# Altium integrated library Analog Devices Switches and Multiplexers Multiplexers (Muxes).IntLib: 481 symbols (part 7 of 23)
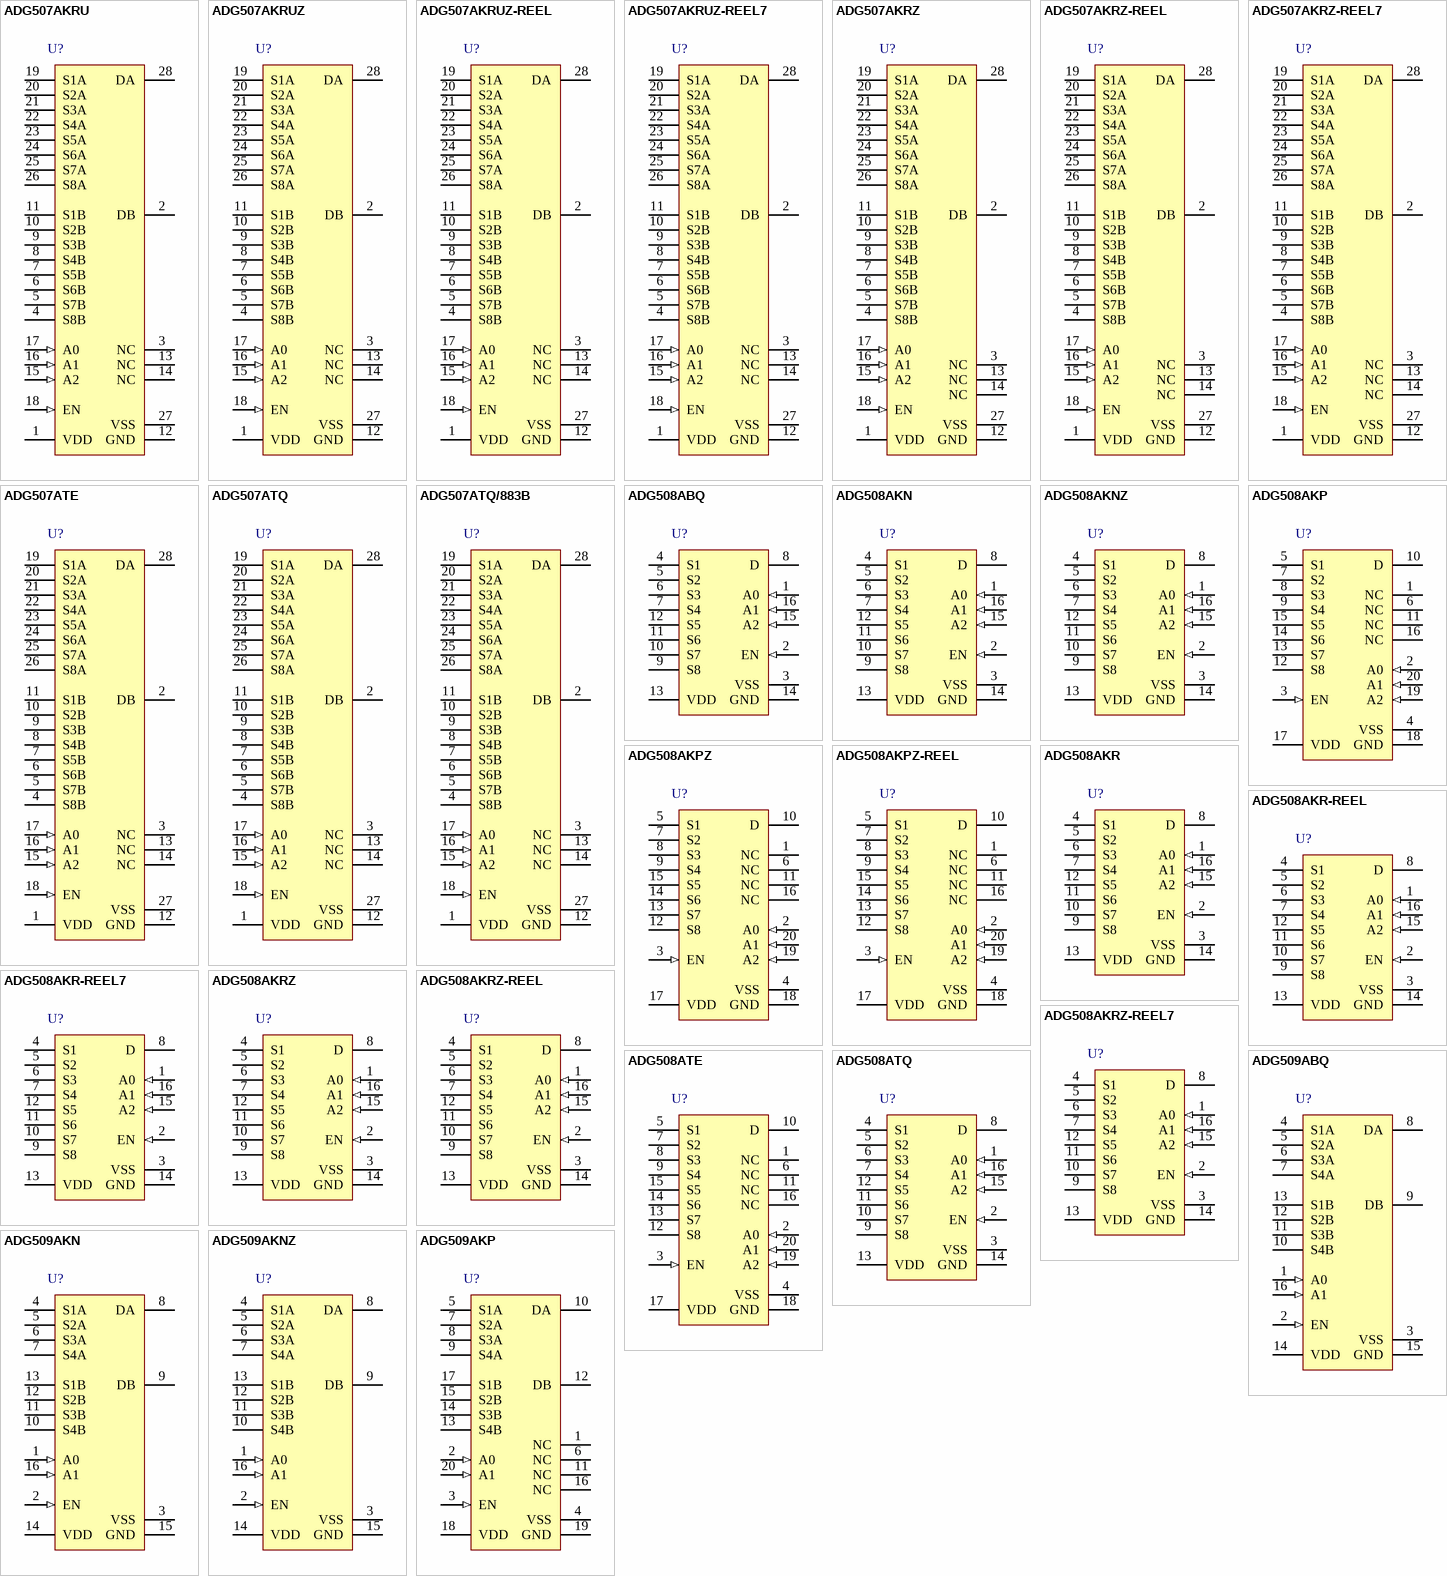
[diagram p23: symbols ADG507AKRU to ADG509AKP]

## ADG508AKR-REEL
designator U?
CMOS 8-Channel Analog Multiplexer, 280 Ohm / 500 Ohm Ron, 16-pin SOIC (R-16), Reel; Manufacturer: Analog Devices; PartNumber: ADG508AKR-REEL; Max Analog Signal Range: Vss to Vdd; Ron (ohms): 280; t transition (s): 200n; DatasheetVersion: Rev. D; PackageVersion: 060606-A, 06/2006; PackageReference: R-16; PackageDescription: 16-Pin Standard Small Outline Package, Body 9.9 x 3.9 mm, Pitch 1.27 mm; Supplier 1: Digi-Key; Supplier Part Number 1: ADG508AKR-REEL-ND; Supplier 2: Newark; Supplier Part Number 2: 09B7093; Supplier 3: Mouser; Supplier Part Number 3: 584-ADG508AKR-R; Packing: Reel; Mounting Technology: Surface Mount; Code_JEDEC: MS-012-AC; ComponentLink1Description: Manufacturer URL; ComponentLink1URL: http://www.analog.com/en/index.html; ComponentLink2Description: Datasheet; ComponentLink2URL: http://www.analog.com/static/imported-files/data_sheets/ADG508A_509A.pdf; ComponentLink3Description: Package Specification; ComponentLink3URL: http://www.analog.com/static/imported-files/packages/PKG_PDF/SOIC_Narrow%20(R)/R_16.pdf
footprint ADI-R-16_N (SOIC, 16-Leads, Body 9.9x3.9mm, Pitch 1.27mm, IPC Medium Density)
footprint ADI-R-16_L (SOIC, 16-Leads, Body 9.9x3.9mm, Pitch 1.27mm, IPC High Density)
footprint ADI-R-16_M (SOIC, 16-Leads, Body 9.9x3.9mm, Pitch 1.27mm, IPC Low Density)
pins: 1 A0 (in), 2 EN (in), 3 VSS (power), 4 S1, 5 S2, 6 S3, 7 S4, 8 D, 9 S8, 10 S7, 11 S6, 12 S5, 13 VDD (power), 14 GND (power), 15 A2 (in), 16 A1 (in)

## ADG508AKR-REEL7
designator U?
CMOS 8-Channel Analog Multiplexer, 280 Ohm / 500 Ohm Ron, 16-pin SOIC (R-16), Reel; Manufacturer: Analog Devices; PartNumber: ADG508AKR-REEL7; Max Analog Signal Range: Vss to Vdd; Ron (ohms): 280; t transition (s): 200n; DatasheetVersion: Rev. D; PackageVersion: 060606-A, 06/2006; PackageReference: R-16; PackageDescription: 16-Pin Standard Small Outline Package, Body 9.9 x 3.9 mm, Pitch 1.27 mm; Supplier 1: Digi-Key; Supplier Part Number 1: ADG508AKR-REEL7TR-ND; Supplier 2: Digi-Key; Supplier Part Number 2: ADG508AKR-REEL7CT-ND; Supplier 3: Digi-Key; Supplier Part Number 3: ADG508AKRREEL7DKR-ND; Supplier 4: Newark; Supplier Part Number 4: 09B7094; Supplier 5: Mouser; Supplier Part Number 5: 584-ADG508AKR-R7; Packing: Reel; Mounting Technology: Surface Mount; Code_JEDEC: MS-012-AC; ComponentLink1Description: Manufacturer URL; ComponentLink1URL: http://www.analog.com/en/index.html; ComponentLink2Description: Datasheet; ComponentLink2URL: http://www.analog.com/static/imported-files/data_sheets/ADG508A_509A.pdf; ComponentLink3Description: Package Specification; ComponentLink3URL: http://www.analog.com/static/imported-files/packages/PKG_PDF/SOIC_Narrow%20(R)/R_16.pdf
footprint ADI-R-16_N (SOIC, 16-Leads, Body 9.9x3.9mm, Pitch 1.27mm, IPC Medium Density)
footprint ADI-R-16_L (SOIC, 16-Leads, Body 9.9x3.9mm, Pitch 1.27mm, IPC High Density)
footprint ADI-R-16_M (SOIC, 16-Leads, Body 9.9x3.9mm, Pitch 1.27mm, IPC Low Density)
pins: 1 A0 (in), 2 EN (in), 3 VSS (power), 4 S1, 5 S2, 6 S3, 7 S4, 8 D, 9 S8, 10 S7, 11 S6, 12 S5, 13 VDD (power), 14 GND (power), 15 A2 (in), 16 A1 (in)

## ADG508AKRZ
designator U?
CMOS 8-Channel Analog Multiplexer, 280 Ohm / 500 Ohm Ron, 16-pin SOIC (R-16), Tube; Manufacturer: Analog Devices; PartNumber: ADG508AKRZ; Max Analog Signal Range: Vss to Vdd; Ron (ohms): 280; t transition (s): 200n; DatasheetVersion: Rev. D; PackageVersion: 060606-A, 06/2006; PackageReference: R-16; PackageDescription: 16-Pin Standard Small Outline Package, Body 9.9 x 3.9 mm, Pitch 1.27 mm; Supplier 1: Digi-Key; Supplier Part Number 1: ADG508AKRZ-ND; Supplier 2: Farnell; Supplier Part Number 2: 1661033; Supplier 3: Newark; Supplier Part Number 3: 59K1361; Supplier 4: Mouser; Supplier Part Number 4: 584-ADG508AKRZ; Packing: Tube; Mounting Technology: Surface Mount; Code_JEDEC: MS-012-AC; ComponentLink1Description: Manufacturer URL; ComponentLink1URL: http://www.analog.com/en/index.html; ComponentLink2Description: Datasheet; ComponentLink2URL: http://www.analog.com/static/imported-files/data_sheets/ADG508A_509A.pdf; ComponentLink3Description: Package Specification; ComponentLink3URL: http://www.analog.com/static/imported-files/packages/PKG_PDF/SOIC_Narrow%20(R)/R_16.pdf
footprint ADI-R-16_N (SOIC, 16-Leads, Body 9.9x3.9mm, Pitch 1.27mm, IPC Medium Density)
footprint ADI-R-16_L (SOIC, 16-Leads, Body 9.9x3.9mm, Pitch 1.27mm, IPC High Density)
footprint ADI-R-16_M (SOIC, 16-Leads, Body 9.9x3.9mm, Pitch 1.27mm, IPC Low Density)
pins: 1 A0 (in), 2 EN (in), 3 VSS (power), 4 S1, 5 S2, 6 S3, 7 S4, 8 D, 9 S8, 10 S7, 11 S6, 12 S5, 13 VDD (power), 14 GND (power), 15 A2 (in), 16 A1 (in)

## ADG508AKRZ-REEL
designator U?
CMOS 8-Channel Analog Multiplexer, 280 Ohm / 500 Ohm Ron, 16-pin SOIC (R-16), Reel; Manufacturer: Analog Devices; PartNumber: ADG508AKRZ-REEL; Max Analog Signal Range: Vss to Vdd; Ron (ohms): 280; t transition (s): 200n; DatasheetVersion: Rev. D; PackageVersion: 060606-A, 06/2006; PackageReference: R-16; PackageDescription: 16-Pin Standard Small Outline Package, Body 9.9 x 3.9 mm, Pitch 1.27 mm; Supplier 1: Digi-Key; Supplier Part Number 1: ADG508AKRZ-REELTR-ND; Supplier 2: Digi-Key; Supplier Part Number 2: ADG508AKRZ-REELCT-ND; Supplier 3: Digi-Key; Supplier Part Number 3: ADG508AKRZ-REELDKR-ND; Supplier 4: Newark; Supplier Part Number 4: 59K1362; Supplier 5: Mouser; Supplier Part Number 5: 584-ADG508AKRZ-R; Packing: Reel; Mounting Technology: Surface Mount; Code_JEDEC: MS-012-AC; ComponentLink1Description: Manufacturer URL; ComponentLink1URL: http://www.analog.com/en/index.html; ComponentLink2Description: Datasheet; ComponentLink2URL: http://www.analog.com/static/imported-files/data_sheets/ADG508A_509A.pdf; ComponentLink3Description: Package Specification; ComponentLink3URL: http://www.analog.com/static/imported-files/packages/PKG_PDF/SOIC_Narrow%20(R)/R_16.pdf
footprint ADI-R-16_N (SOIC, 16-Leads, Body 9.9x3.9mm, Pitch 1.27mm, IPC Medium Density)
footprint ADI-R-16_L (SOIC, 16-Leads, Body 9.9x3.9mm, Pitch 1.27mm, IPC High Density)
footprint ADI-R-16_M (SOIC, 16-Leads, Body 9.9x3.9mm, Pitch 1.27mm, IPC Low Density)
pins: 1 A0 (in), 2 EN (in), 3 VSS (power), 4 S1, 5 S2, 6 S3, 7 S4, 8 D, 9 S8, 10 S7, 11 S6, 12 S5, 13 VDD (power), 14 GND (power), 15 A2 (in), 16 A1 (in)

## ADG508AKRZ-REEL7
designator U?
CMOS 8-Channel Analog Multiplexer, 280 Ohm / 500 Ohm Ron, 16-pin SOIC (R-16), Reel; Manufacturer: Analog Devices; PartNumber: ADG508AKRZ-REEL7; Max Analog Signal Range: Vss to Vdd; Ron (ohms): 280; t transition (s): 200n; DatasheetVersion: Rev. D; PackageVersion: 060606-A, 06/2006; PackageReference: R-16; PackageDescription: 16-Pin Standard Small Outline Package, Body 9.9 x 3.9 mm, Pitch 1.27 mm; Supplier 1: Digi-Key; Supplier Part Number 1: ADG508AKRZ-REEL7TR-ND; Supplier 2: Digi-Key; Supplier Part Number 2: ADG508AKRZ-REEL7CT-ND; Supplier 3: Digi-Key; Supplier Part Number 3: ADG508AKRZ-REEL7DKR-ND; Supplier 4: Newark; Supplier Part Number 4: 59K1363; Supplier 5: Mouser; Supplier Part Number 5: 584-ADG508AKRZ-R7; Packing: Reel; Mounting Technology: Surface Mount; Code_JEDEC: MS-012-AC; ComponentLink1Description: Manufacturer URL; ComponentLink1URL: http://www.analog.com/en/index.html; ComponentLink2Description: Datasheet; ComponentLink2URL: http://www.analog.com/static/imported-files/data_sheets/ADG508A_509A.pdf; ComponentLink3Description: Package Specification; ComponentLink3URL: http://www.analog.com/static/imported-files/packages/PKG_PDF/SOIC_Narrow%20(R)/R_16.pdf
footprint ADI-R-16_N (SOIC, 16-Leads, Body 9.9x3.9mm, Pitch 1.27mm, IPC Medium Density)
footprint ADI-R-16_L (SOIC, 16-Leads, Body 9.9x3.9mm, Pitch 1.27mm, IPC High Density)
footprint ADI-R-16_M (SOIC, 16-Leads, Body 9.9x3.9mm, Pitch 1.27mm, IPC Low Density)
pins: 1 A0 (in), 2 EN (in), 3 VSS (power), 4 S1, 5 S2, 6 S3, 7 S4, 8 D, 9 S8, 10 S7, 11 S6, 12 S5, 13 VDD (power), 14 GND (power), 15 A2 (in), 16 A1 (in)

## ADG508ATE
designator U?
CMOS 8-Channel Analog Multiplexer, 280 Ohm / 500 Ohm Ron, 20-pin LCC (E-20-1), Tube; Manufacturer: Analog Devices; PartNumber: ADG508ATE; Max Analog Signal Range: Vss to Vdd; Ron (ohms): 280; t transition (s): 200n; DatasheetVersion: Rev. D; PackageVersion: 022106-A, 02/2006; PackageReference: E-20-1; PackageDescription: 20-Terminal Ceramic Leadless Chip Carrier, Body 8.89 x 8.89 mm, Pitch 1.27 mm; Packing: Tube; Mounting Technology: Surface Mount; ComponentLink1Description: Manufacturer URL; ComponentLink1URL: http://www.analog.com/en/index.html; ComponentLink2Description: Datasheet; ComponentLink2URL: http://www.analog.com/static/imported-files/data_sheets/ADG508A_509A.pdf; ComponentLink3Description: Package Specification; ComponentLink3URL: http://www.analog.com/static/imported-files/packages/PKG_PDF/LCC(E)/E_20_1.pdf
footprint ADI-E-20-1_N (LCC, 20-Leads, Body 8.9x8.9mm, Pitch 1.27mm, IPC Medium Density)
footprint ADI-E-20-1_L (LCC, 20-Leads, Body 8.9x8.9mm, Pitch 1.27mm, IPC High Density)
footprint ADI-E-20-1_M (LCC, 20-Leads, Body 8.9x8.9mm, Pitch 1.27mm, IPC Low Density)
pins: 1 NC "No Connect.", 2 A0 (in) "Logic Control Input.", 3 EN (in) "Active High Digital Input. When low, the device is disabled and all switches are off.When high, Ax logic inputs determine on switches.", 4 VSS (power) "Most Negative Power Supply Potential in Dual Supplies. In single-supply applications, it can be connected to ground.", 5 S1 "Source Terminal 1. Can be an input or an output.", 6 NC "No Connect.", 7 S2 "Source Terminal 2. Can be an input or an output.", 8 S3 "Source Terminal 3. Can be an input or an output.", 9 S4 "Source Terminal 4. Can be an input or an output.", 10 D "Drain Terminal. Can be an input or an output.", 11 NC "No Connect.", 12 S8 "Source Terminal 8. Can be an input or an output.", 13 S7 "Source Terminal 7. Can be an input or an output.", 14 S6 "Source Terminal 6. Can be an input or an output.", 15 S5 "Source Terminal 5. Can be an input or an output.", 16 NC "No Connect.", 17 VDD (power) "Most Positive Power Supply Potential.", 18 GND (power) "Ground (0 V) Reference.", 19 A2 (in) "Logic Control Input.", 20 A1 (in) "Logic Control Input."

## ADG508ATQ
designator U?
CMOS 8-Channel Analog Multiplexer, 280 Ohm / 500 Ohm Ron, 16-pin DIP (Q-16), Tube; Manufacturer: Analog Devices; PartNumber: ADG508ATQ; Max Analog Signal Range: Vss to Vdd; Ron (ohms): 280; t transition (s): 200n; DatasheetVersion: Rev. D; PackageVersion: Aug-05; PackageReference: Q-16; PackageDescription: 16-Pin Ceramic Dual In-Line Package, Row spacing 7.62 mm, Pitch 2.54 mm; Supplier 1: Newark; Supplier Part Number 1: 05F6222; Supplier 2: Mouser; Supplier Part Number 2: 584-ADG508ATQ; Packing: Tube; Mounting Technology: Through Hole; ComponentLink1Description: Manufacturer URL; ComponentLink1URL: http://www.analog.com/en/index.html; ComponentLink2Description: Datasheet; ComponentLink2URL: http://www.analog.com/static/imported-files/data_sheets/ADG508A_509A.pdf; ComponentLink3Description: Package Specification; ComponentLink3URL: http://www.analog.com/static/imported-files/packages/54083157002221Q_16.pdf
footprint ADI-Q-16 (DIP, 16-Leads, Body 21.34x6.73mm, Pitch 2.54mm)
pins: 1 A0 (in) "Logic Control Input.", 2 EN (in) "Active High Digital Input. When low, the device is disabled and all switches are off.When high, Ax logic inputs determine on switches.", 3 VSS (power) "Most Negative Power Supply Potential in Dual Supplies. In single-supply applications,it can be connected to ground.", 4 S1 "Source Terminal 1. Can be an input or an output.", 5 S2 "Source Terminal 2. Can be an input or an output.", 6 S3 "Source Terminal 3. Can be an input or an output.", 7 S4 "Source Terminal 4. Can be an input or an output.", 8 D "Drain Terminal. Can be an input or an output.", 9 S8 "Source Terminal 8. Can be an input or an output.", 10 S7 "Source Terminal 7. Can be an input or an output.", 11 S6 "Source Terminal 6. Can be an input or an output.", 12 S5 "Source Terminal 5. Can be an input or an output.", 13 VDD (power) "Most Positive Power Supply Potential.", 14 GND (power) "Ground (0 V) Reference.", 15 A2 (in) "Logic Control Input.", 16 A1 (in) "Logic Control Input."

## ADG509ABQ
designator U?
CMOS 4-Channel Analog Multiplexer, -40 to 85 degC, 16-pin DIP (Q-16); Manufacturer: Analog Devices; PartNumber: ADG509ABQ; Max Analog Signal Range: Vss to Vdd; Ron (ohms): 280; Supply V Guar Performance: Dual_(+/-12V), Dual_(+/-15V), Single_(+12V), Single_(+15V); t transition (s): 200n; DatasheetVersion: Rev. D; PackageVersion: Aug-05; PackageReference: Q-16; PackageDescription: 16-Pin Ceramic Dual In-Line Package, Row spacing 7.62 mm, Pitch 2.54 mm; Supplier 1: Digi-Key; Supplier Part Number 1: ADG509ABQ-ND; Mounting Technology: Through Hole; ComponentLink1Description: Manufacturer URL; ComponentLink1URL: http://www.analog.com/en/index.html; ComponentLink2Description: Datasheet; ComponentLink2URL: http://www.analog.com/static/imported-files/data_sheets/ADG508A_509A.pdf; ComponentLink3Description: Package Specification; ComponentLink3URL: http://www.analog.com/static/imported-files/packages/54083157002221Q_16.pdf
footprint ADI-Q-16 (DIP, 16-Leads, Body 21.34x6.73mm, Pitch 2.54mm)
pins: 1 A0 (in) "Logic Control Input.", 2 EN (in) "Active High Digital Input. When low, the device is disabled and all switches are off. When high, Ax logic inputs determine on switches.", 3 VSS (power) "Most Negative Power Supply Potential in Dual Supplies. In single-supply applications, it can be connected to ground.", 4 S1A "Source Terminal 1A. Can be an input or an output.", 5 S2A "Source Terminal 2A. Can be an input or an output.", 6 S3A "Source Terminal 3A. Can be an input or an output.", 7 S4A "Source Terminal 4A. Can be an input or an output.", 8 DA "Drain Terminal A. Can be an input or an output.", 9 DB "Drain Terminal B. Can be an input or an output.", 10 S4B "Source Terminal 4B. Can be an input or an output.", 11 S3B "Source Terminal 3B. Can be an input or an output.", 12 S2B "Source Terminal 2B. Can be an input or an output.", 13 S1B "Source Terminal 1B. Can be an input or an output.", 14 VDD (power) "Most Positive Power Supply Potential.", 15 GND (power) "Ground (0 V) Reference.", 16 A1 (in) "Logic Control Input."

## ADG509AKN
designator U?
CMOS 4-Channel Analog Multiplexer, -40 to 85 degC, 16-pin DIP (N-16), Tube; Manufacturer: Analog Devices; PartNumber: ADG509AKN; Max Analog Signal Range: Vss to Vdd; Ron (ohms): 280; Supply V Guar Performance: Dual_(+/-12V), Dual_(+/-15V), Single_(+12V), Single_(+15V); t transition (s): 200n; DatasheetVersion: Rev. D; PackageVersion: 070706-A, 07/2006; PackageReference: N-16; PackageDescription: 16-Pin Plastic Dual In-Line Package, Row spacing 7.62 mm, Pitch 2.54 mm; Supplier 1: Digi-Key; Supplier Part Number 1: ADG509AKN-ND; Supplier 2: Mouser; Supplier Part Number 2: 584-ADG509AKN; Packing: Tube; Mounting Technology: Through Hole; Code_JEDEC: MS-001; ComponentLink1Description: Manufacturer URL; ComponentLink1URL: http://www.analog.com/en/index.html; ComponentLink2Description: Datasheet; ComponentLink2URL: http://www.analog.com/static/imported-files/data_sheets/ADG508A_509A.pdf; ComponentLink3Description: Package Specification; ComponentLink3URL: http://www.analog.com/static/imported-files/packages/44768431550332N_16.pdf
footprint ADI-N-16 (DIP, 16-Leads, Body 20.07x6.6mm, Pitch 2.54mm)
pins: 1 A0 (in) "Logic Control Input.", 2 EN (in) "Active High Digital Input. When low, the device is disabled and all switches are off. When high, Ax logic inputs determine on switches.", 3 VSS (power) "Most Negative Power Supply Potential in Dual Supplies. In single-supply applications, it can be connected to ground.", 4 S1A "Source Terminal 1A. Can be an input or an output.", 5 S2A "Source Terminal 2A. Can be an input or an output.", 6 S3A "Source Terminal 3A. Can be an input or an output.", 7 S4A "Source Terminal 4A. Can be an input or an output.", 8 DA "Drain Terminal A. Can be an input or an output.", 9 DB "Drain Terminal B. Can be an input or an output.", 10 S4B "Source Terminal 4B. Can be an input or an output.", 11 S3B "Source Terminal 3B. Can be an input or an output.", 12 S2B "Source Terminal 2B. Can be an input or an output.", 13 S1B "Source Terminal 1B. Can be an input or an output.", 14 VDD (power) "Most Positive Power Supply Potential.", 15 GND (power) "Ground (0 V) Reference.", 16 A1 (in) "Logic Control Input."

## ADG509AKNZ
designator U?
CMOS 4-Channel Analog Multiplexer, -40 to 85 degC, 16-pin DIP (N-16), Tube; Manufacturer: Analog Devices; PartNumber: ADG509AKNZ; Max Analog Signal Range: Vss to Vdd; Ron (ohms): 280; Supply V Guar Performance: Dual_(+/-12V), Dual_(+/-15V), Single_(+12V), Single_(+15V); t transition (s): 200n; DatasheetVersion: Rev. D; PackageVersion: 070706-A, 07/2006; PackageReference: N-16; PackageDescription: 16-Pin Plastic Dual In-Line Package, Row spacing 7.62 mm, Pitch 2.54 mm; Supplier 1: Digi-Key; Supplier Part Number 1: ADG509AKNZ-ND; Supplier 2: Farnell; Supplier Part Number 2: 9604944; Supplier 3: Newark; Supplier Part Number 3: 19M0677; Supplier 4: Mouser; Supplier Part Number 4: 584-ADG509AKNZ; Packing: Tube; Mounting Technology: Through Hole; Code_JEDEC: MS-001; ComponentLink1Description: Manufacturer URL; ComponentLink1URL: http://www.analog.com/en/index.html; ComponentLink2Description: Datasheet; ComponentLink2URL: http://www.analog.com/static/imported-files/data_sheets/ADG508A_509A.pdf; ComponentLink3Description: Package Specification; ComponentLink3URL: http://www.analog.com/static/imported-files/packages/44768431550332N_16.pdf
footprint ADI-N-16 (DIP, 16-Leads, Body 20.07x6.6mm, Pitch 2.54mm)
pins: 1 A0 (in) "Logic Control Input.", 2 EN (in) "Active High Digital Input. When low, the device is disabled and all switches are off. When high, Ax logic inputs determine on switches.", 3 VSS (power) "Most Negative Power Supply Potential in Dual Supplies. In single-supply applications, it can be connected to ground.", 4 S1A "Source Terminal 1A. Can be an input or an output.", 5 S2A "Source Terminal 2A. Can be an input or an output.", 6 S3A "Source Terminal 3A. Can be an input or an output.", 7 S4A "Source Terminal 4A. Can be an input or an output.", 8 DA "Drain Terminal A. Can be an input or an output.", 9 DB "Drain Terminal B. Can be an input or an output.", 10 S4B "Source Terminal 4B. Can be an input or an output.", 11 S3B "Source Terminal 3B. Can be an input or an output.", 12 S2B "Source Terminal 2B. Can be an input or an output.", 13 S1B "Source Terminal 1B. Can be an input or an output.", 14 VDD (power) "Most Positive Power Supply Potential.", 15 GND (power) "Ground (0 V) Reference.", 16 A1 (in) "Logic Control Input."

## ADG509AKP
designator U?
CMOS 4-Channel Analog Multiplexer, -40 to 85 degC, 20-pin PLCC (P-20A), Tube; Manufacturer: Analog Devices; PartNumber: ADG509AKP; Max Analog Signal Range: Vss to Vdd; Ron (ohms): 280; Supply V Guar Performance: Dual_(+/-12V), Dual_(+/-15V), Single_(+12V), Single_(+15V); t transition (s): 200n; DatasheetVersion: Rev. D; PackageVersion: Nov-02; PackageReference: P-20A; PackageDescription: 20-Pin Plastic Leaded Chip Carrier, Body 8.97 x 8.97 mm, Pitch 1.27 mm; Supplier 1: Digi-Key; Supplier Part Number 1: ADG509AKP-ND; Supplier 2: Mouser; Supplier Part Number 2: 584-ADG509AKP; Packing: Tube; Mounting Technology: Surface Mount; Code_JEDEC: MO-047AA; ComponentLink1Description: Manufacturer URL; ComponentLink1URL: http://www.analog.com/en/index.html; ComponentLink2Description: Datasheet; ComponentLink2URL: http://www.analog.com/static/imported-files/data_sheets/ADG508A_509A.pdf; ComponentLink3Description: Package Specification; ComponentLink3URL: http://www.analog.com/static/imported-files/packages/3121431516544404277643669223804694P20A.pdf
footprint ADI-P-20A_N (PLCC, 20-Leads, Body 8.965x8.965mm, Pitch 1.27mm, IPC Medium Density)
footprint ADI-P-20A_L (PLCC, 20-Leads, Body 8.965x8.965mm, Pitch 1.27mm, IPC High Density)
footprint ADI-P-20A_M (PLCC, 20-Leads, Body 8.965x8.965mm, Pitch 1.27mm, IPC Low Density)
pins: 1 NC "No Connect.", 2 A0 (in) "Logic Control Input.", 3 EN (in) "Active High Digital Input. When low, the device is disabled and all switches are off. When high, Ax logic inputs determine on switches.", 4 VSS (power) "Most Negative Power Supply Potential in Dual Supplies. In single-supply applications, it can be connected to ground.", 5 S1A "Source Terminal 1A. Can be an input or an output.", 6 NC "No Connect.", 7 S2A "Source Terminal 2A. Can be an input or an output.", 8 S3A "Source Terminal 3A. Can be an input or an output.", 9 S4A "Source Terminal 4A. Can be an input or an output.", 10 DA "Drain Terminal A. Can be an input or an output.", 11 NC "No Connect.", 12 DB "Drain Terminal B. Can be an input or an output.", 13 S4B "Source Terminal 4B. Can be an input or an output.", 14 S3B "Source Terminal 3B. Can be an input or an output.", 15 S2B "Source Terminal 2B. Can be an input or an output.", 16 NC "No Connect.", 17 S1B "Source Terminal 1B. Can be an input or an output.", 18 VDD (power) "Most Positive Power Supply Potential.", 19 GND (power) "Ground (0 V) Reference.", 20 A1 (in) "Logic Control Input"

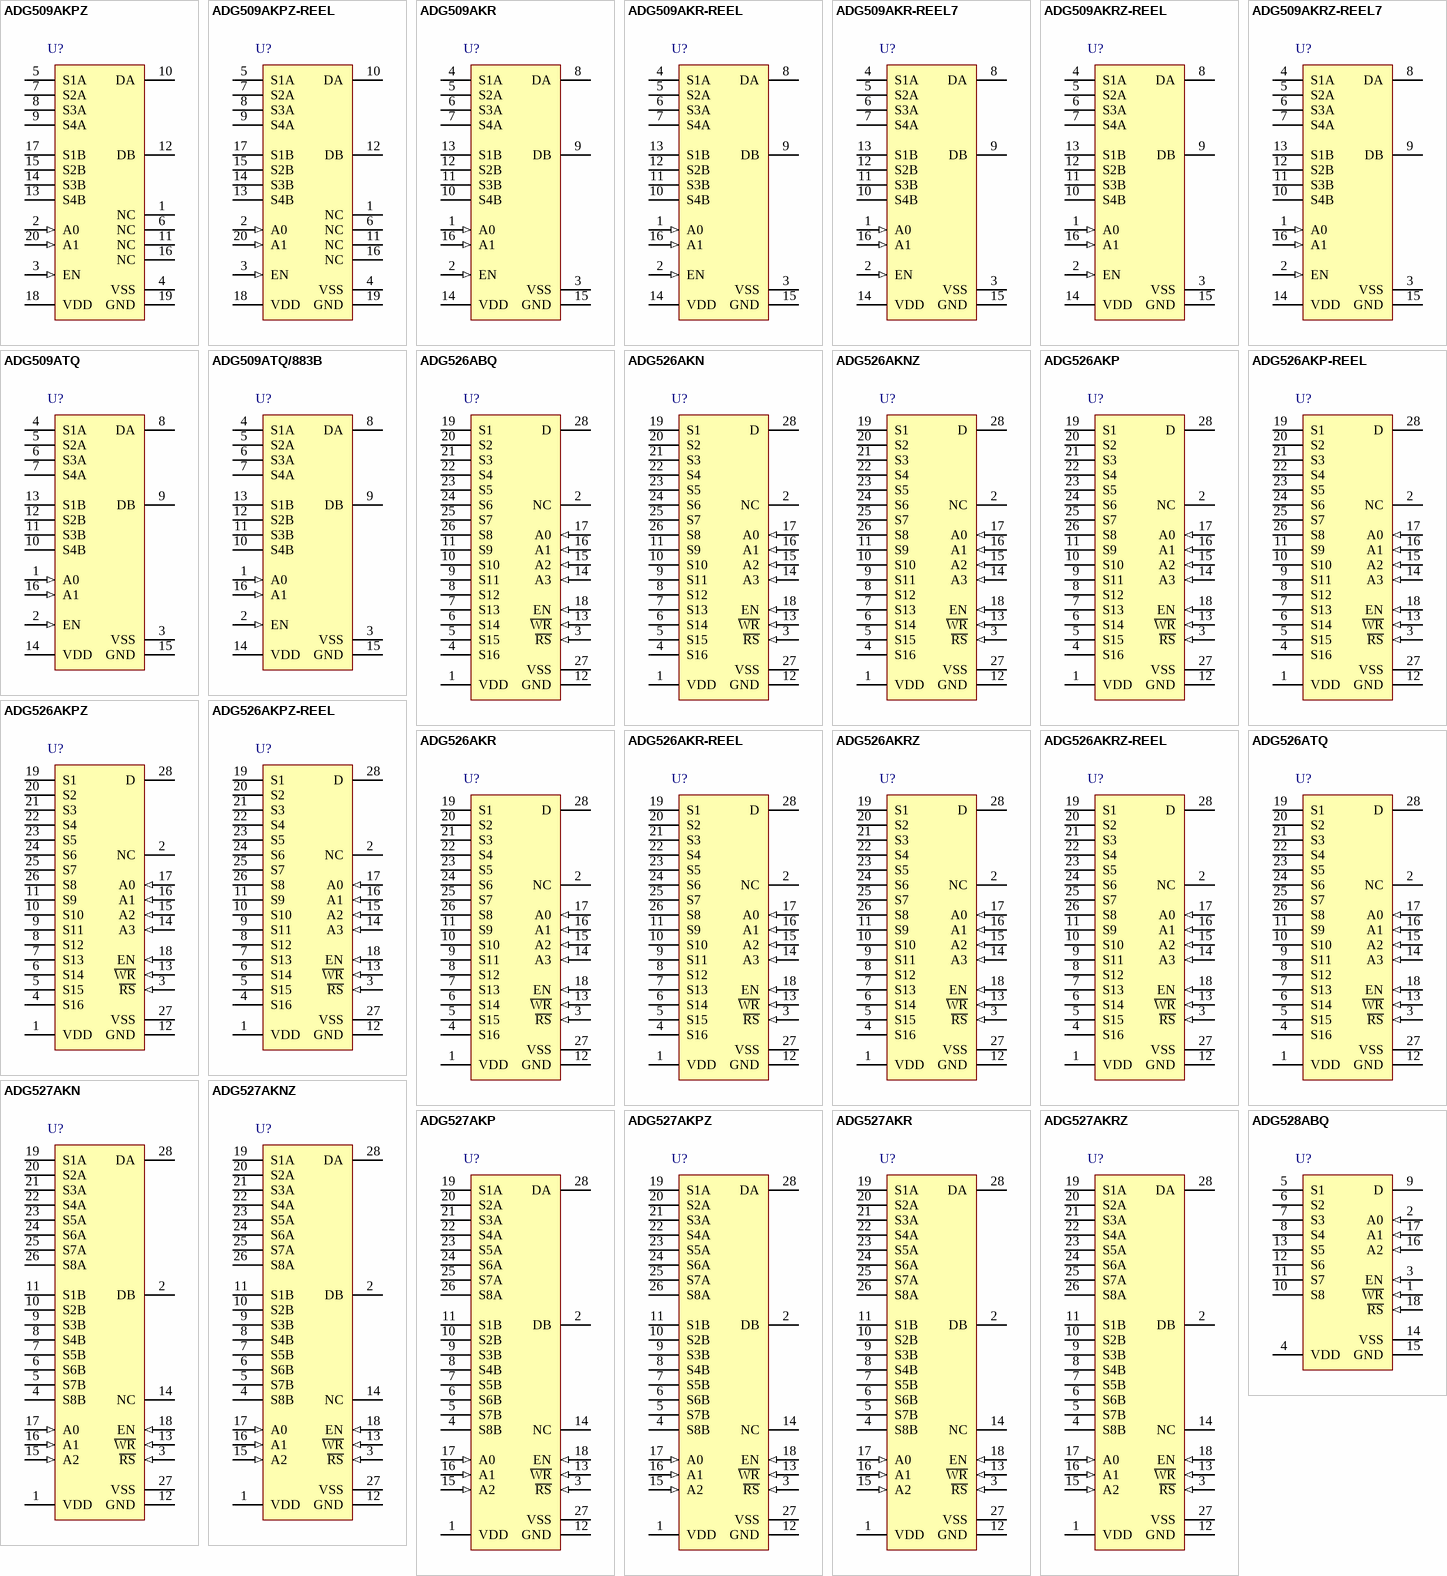
[diagram p6: symbols ADG509AKPZ to ADG528ABQ]

## ADG509AKPZ
designator U?
CMOS 4-Channel Analog Multiplexer, -40 to 85 degC, 20-pin PLCC (P-20A), Tube; Manufacturer: Analog Devices; PartNumber: ADG509AKPZ; Max Analog Signal Range: Vss to Vdd; Ron (ohms): 280; Supply V Guar Performance: Dual_(+/-12V), Dual_(+/-15V), Single_(+12V), Single_(+15V); t transition (s): 200n; DatasheetVersion: Rev. D; PackageVersion: Nov-02; PackageReference: P-20A; PackageDescription: 20-Pin Plastic Leaded Chip Carrier, Body 8.97 x 8.97 mm, Pitch 1.27 mm; Supplier 1: Digi-Key; Supplier Part Number 1: ADG509AKPZ-ND; Packing: Tube; Mounting Technology: Surface Mount; Code_JEDEC: MO-047AA; ComponentLink1Description: Manufacturer URL; ComponentLink1URL: http://www.analog.com/en/index.html; ComponentLink2Description: Datasheet; ComponentLink2URL: http://www.analog.com/static/imported-files/data_sheets/ADG508A_509A.pdf; ComponentLink3Description: Package Specification; ComponentLink3URL: http://www.analog.com/static/imported-files/packages/3121431516544404277643669223804694P20A.pdf
footprint ADI-P-20A_N (PLCC, 20-Leads, Body 8.965x8.965mm, Pitch 1.27mm, IPC Medium Density)
footprint ADI-P-20A_L (PLCC, 20-Leads, Body 8.965x8.965mm, Pitch 1.27mm, IPC High Density)
footprint ADI-P-20A_M (PLCC, 20-Leads, Body 8.965x8.965mm, Pitch 1.27mm, IPC Low Density)
pins: 1 NC "No Connect.", 2 A0 (in) "Logic Control Input.", 3 EN (in) "Active High Digital Input. When low, the device is disabled and all switches are off. When high, Ax logic inputs determine on switches.", 4 VSS (power) "Most Negative Power Supply Potential in Dual Supplies. In single-supply applications, it can be connected to ground.", 5 S1A "Source Terminal 1A. Can be an input or an output.", 6 NC "No Connect.", 7 S2A "Source Terminal 2A. Can be an input or an output.", 8 S3A "Source Terminal 3A. Can be an input or an output.", 9 S4A "Source Terminal 4A. Can be an input or an output.", 10 DA "Drain Terminal A. Can be an input or an output.", 11 NC "No Connect.", 12 DB "Drain Terminal B. Can be an input or an output.", 13 S4B "Source Terminal 4B. Can be an input or an output.", 14 S3B "Source Terminal 3B. Can be an input or an output.", 15 S2B "Source Terminal 2B. Can be an input or an output.", 16 NC "No Connect.", 17 S1B "Source Terminal 1B. Can be an input or an output.", 18 VDD (power) "Most Positive Power Supply Potential.", 19 GND (power) "Ground (0 V) Reference.", 20 A1 (in) "Logic Control Input"

## ADG509AKPZ-REEL
designator U?
CMOS 4-Channel Analog Multiplexer, -40 to 85 degC, 20-pin PLCC (P-20A), Reel; Manufacturer: Analog Devices; PartNumber: ADG509AKPZ-REEL; Max Analog Signal Range: Vss to Vdd; Ron (ohms): 280; Supply V Guar Performance: Dual_(+/-12V), Dual_(+/-15V), Single_(+12V), Single_(+15V); t transition (s): 200n; DatasheetVersion: Rev. D; PackageVersion: Nov-02; PackageReference: P-20A; PackageDescription: 20-Pin Plastic Leaded Chip Carrier, Body 8.97 x 8.97 mm, Pitch 1.27 mm; Supplier 1: Digi-Key; Supplier Part Number 1: ADG509AKPZ-REELTR-ND; Supplier 2: Digi-Key; Supplier Part Number 2: ADG509AKPZ-REELCT-ND; Supplier 3: Digi-Key; Supplier Part Number 3: ADG509AKPZ-REELDKR-ND; Supplier 4: Mouser; Supplier Part Number 4: 584-ADG509AKPZ-R; Packing: Reel; Mounting Technology: Surface Mount; Code_JEDEC: MO-047AA; ComponentLink1Description: Manufacturer URL; ComponentLink1URL: http://www.analog.com/en/index.html; ComponentLink2Description: Datasheet; ComponentLink2URL: http://www.analog.com/static/imported-files/data_sheets/ADG508A_509A.pdf; ComponentLink3Description: Package Specification; ComponentLink3URL: http://www.analog.com/static/imported-files/packages/3121431516544404277643669223804694P20A.pdf
footprint ADI-P-20A_N (PLCC, 20-Leads, Body 8.965x8.965mm, Pitch 1.27mm, IPC Medium Density)
footprint ADI-P-20A_L (PLCC, 20-Leads, Body 8.965x8.965mm, Pitch 1.27mm, IPC High Density)
footprint ADI-P-20A_M (PLCC, 20-Leads, Body 8.965x8.965mm, Pitch 1.27mm, IPC Low Density)
pins: 1 NC "No Connect.", 2 A0 (in) "Logic Control Input.", 3 EN (in) "Active High Digital Input. When low, the device is disabled and all switches are off. When high, Ax logic inputs determine on switches.", 4 VSS (power) "Most Negative Power Supply Potential in Dual Supplies. In single-supply applications, it can be connected to ground.", 5 S1A "Source Terminal 1A. Can be an input or an output.", 6 NC "No Connect.", 7 S2A "Source Terminal 2A. Can be an input or an output.", 8 S3A "Source Terminal 3A. Can be an input or an output.", 9 S4A "Source Terminal 4A. Can be an input or an output.", 10 DA "Drain Terminal A. Can be an input or an output.", 11 NC "No Connect.", 12 DB "Drain Terminal B. Can be an input or an output.", 13 S4B "Source Terminal 4B. Can be an input or an output.", 14 S3B "Source Terminal 3B. Can be an input or an output.", 15 S2B "Source Terminal 2B. Can be an input or an output.", 16 NC "No Connect.", 17 S1B "Source Terminal 1B. Can be an input or an output.", 18 VDD (power) "Most Positive Power Supply Potential.", 19 GND (power) "Ground (0 V) Reference.", 20 A1 (in) "Logic Control Input"

## ADG509AKR
designator U?
CMOS 4-Channel Analog Multiplexer, -40 to 85 degC, 16-pin SOIC (R-16), Tube; Manufacturer: Analog Devices; PartNumber: ADG509AKR; Max Analog Signal Range: Vss to Vdd; Ron (ohms): 280; Supply V Guar Performance: Dual_(+/-12V), Dual_(+/-15V), Single_(+12V), Single_(+15V); t transition (s): 200n; DatasheetVersion: Rev. D; PackageVersion: 060606-A, 06/2006; PackageReference: R-16; PackageDescription: 16-Pin Standard Small Outline Package, Body 9.9 x 3.9 mm, Pitch 1.27 mm; Supplier 1: Digi-Key; Supplier Part Number 1: ADG509AKR-ND; Supplier 2: Newark; Supplier Part Number 2: 05F6226; Supplier 3: Mouser; Supplier Part Number 3: 584-ADG509AKR; Packing: Tube; Mounting Technology: Surface Mount; Code_JEDEC: MS-012-AC; ComponentLink1Description: Manufacturer URL; ComponentLink1URL: http://www.analog.com/en/index.html; ComponentLink2Description: Datasheet; ComponentLink2URL: http://www.analog.com/static/imported-files/data_sheets/ADG508A_509A.pdf; ComponentLink3Description: Package Specification; ComponentLink3URL: http://www.analog.com/static/imported-files/packages/PKG_PDF/SOIC_Narrow%20(R)/R_16.pdf
footprint ADI-R-16_N (SOIC, 16-Leads, Body 9.9x3.9mm, Pitch 1.27mm, IPC Medium Density)
footprint ADI-R-16_L (SOIC, 16-Leads, Body 9.9x3.9mm, Pitch 1.27mm, IPC High Density)
footprint ADI-R-16_M (SOIC, 16-Leads, Body 9.9x3.9mm, Pitch 1.27mm, IPC Low Density)
pins: 1 A0 (in) "Logic Control Input.", 2 EN (in) "Active High Digital Input. When low, the device is disabled and all switches are off. When high, Ax logic inputs determine on switches.", 3 VSS (power) "Most Negative Power Supply Potential in Dual Supplies. In single-supply applications, it can be connected to ground.", 4 S1A "Source Terminal 1A. Can be an input or an output.", 5 S2A "Source Terminal 2A. Can be an input or an output.", 6 S3A "Source Terminal 3A. Can be an input or an output.", 7 S4A "Source Terminal 4A. Can be an input or an output.", 8 DA "Drain Terminal A. Can be an input or an output.", 9 DB "Drain Terminal B. Can be an input or an output.", 10 S4B "Source Terminal 4B. Can be an input or an output.", 11 S3B "Source Terminal 3B. Can be an input or an output.", 12 S2B "Source Terminal 2B. Can be an input or an output.", 13 S1B "Source Terminal 1B. Can be an input or an output.", 14 VDD (power) "Most Positive Power Supply Potential.", 15 GND (power) "Ground (0 V) Reference.", 16 A1 (in) "Logic Control Input."

## ADG509AKR-REEL
designator U?
CMOS 4-Channel Analog Multiplexer, -40 to 85 degC, 16-pin SOIC (R-16), Tube; Manufacturer: Analog Devices; PartNumber: ADG509AKR-REEL; Max Analog Signal Range: Vss to Vdd; Packing: Reel; Ron (ohms): 280; Supply V Guar Performance: Dual_(+/-12V), Dual_(+/-15V), Single_(+12V), Single_(+15V); t transition (s): 200n; DatasheetVersion: Rev. D; PackageVersion: 060606-A, 06/2006; PackageReference: R-16; PackageDescription: 16-Pin Standard Small Outline Package, Body 9.9 x 3.9 mm, Pitch 1.27 mm; Supplier 1: Digi-Key; Supplier Part Number 1: ADG509AKR-REEL-ND; Mounting Technology: Surface Mount; Code_JEDEC: MS-012-AC; ComponentLink1Description: Manufacturer URL; ComponentLink1URL: http://www.analog.com/en/index.html; ComponentLink2Description: Datasheet; ComponentLink2URL: http://www.analog.com/static/imported-files/data_sheets/ADG508A_509A.pdf; ComponentLink3Description: Package Specification; ComponentLink3URL: http://www.analog.com/static/imported-files/packages/PKG_PDF/SOIC_Narrow%20(R)/R_16.pdf
footprint ADI-R-16_N (SOIC, 16-Leads, Body 9.9x3.9mm, Pitch 1.27mm, IPC Medium Density)
footprint ADI-R-16_L (SOIC, 16-Leads, Body 9.9x3.9mm, Pitch 1.27mm, IPC High Density)
footprint ADI-R-16_M (SOIC, 16-Leads, Body 9.9x3.9mm, Pitch 1.27mm, IPC Low Density)
pins: 1 A0 (in) "Logic Control Input.", 2 EN (in) "Active High Digital Input. When low, the device is disabled and all switches are off. When high, Ax logic inputs determine on switches.", 3 VSS (power) "Most Negative Power Supply Potential in Dual Supplies. In single-supply applications, it can be connected to ground.", 4 S1A "Source Terminal 1A. Can be an input or an output.", 5 S2A "Source Terminal 2A. Can be an input or an output.", 6 S3A "Source Terminal 3A. Can be an input or an output.", 7 S4A "Source Terminal 4A. Can be an input or an output.", 8 DA "Drain Terminal A. Can be an input or an output.", 9 DB "Drain Terminal B. Can be an input or an output.", 10 S4B "Source Terminal 4B. Can be an input or an output.", 11 S3B "Source Terminal 3B. Can be an input or an output.", 12 S2B "Source Terminal 2B. Can be an input or an output.", 13 S1B "Source Terminal 1B. Can be an input or an output.", 14 VDD (power) "Most Positive Power Supply Potential.", 15 GND (power) "Ground (0 V) Reference.", 16 A1 (in) "Logic Control Input."

## ADG509AKR-REEL7
designator U?
CMOS 4-Channel Analog Multiplexer, -40 to 85 degC, 16-pin SOIC (R-16), Tube; Manufacturer: Analog Devices; PartNumber: ADG509AKR-REEL7; Max Analog Signal Range: Vss to Vdd; Packing: Reel; Ron (ohms): 280; Supply V Guar Performance: Dual_(+/-12V), Dual_(+/-15V), Single_(+12V), Single_(+15V); t transition (s): 200n; DatasheetVersion: Rev. D; PackageVersion: 060606-A, 06/2006; PackageReference: R-16; PackageDescription: 16-Pin Standard Small Outline Package, Body 9.9 x 3.9 mm, Pitch 1.27 mm; Supplier 1: Digi-Key; Supplier Part Number 1: ADG509AKR-REEL7-ND; Supplier 2: Newark; Supplier Part Number 2: 09B7100; Supplier 3: Mouser; Supplier Part Number 3: 584-ADG509AKR-R7; Mounting Technology: Surface Mount; Code_JEDEC: MS-012-AC; ComponentLink1Description: Manufacturer URL; ComponentLink1URL: http://www.analog.com/en/index.html; ComponentLink2Description: Datasheet; ComponentLink2URL: http://www.analog.com/static/imported-files/data_sheets/ADG508A_509A.pdf; ComponentLink3Description: Package Specification; ComponentLink3URL: http://www.analog.com/static/imported-files/packages/PKG_PDF/SOIC_Narrow%20(R)/R_16.pdf
footprint ADI-R-16_N (SOIC, 16-Leads, Body 9.9x3.9mm, Pitch 1.27mm, IPC Medium Density)
footprint ADI-R-16_L (SOIC, 16-Leads, Body 9.9x3.9mm, Pitch 1.27mm, IPC High Density)
footprint ADI-R-16_M (SOIC, 16-Leads, Body 9.9x3.9mm, Pitch 1.27mm, IPC Low Density)
pins: 1 A0 (in) "Logic Control Input.", 2 EN (in) "Active High Digital Input. When low, the device is disabled and all switches are off. When high, Ax logic inputs determine on switches.", 3 VSS (power) "Most Negative Power Supply Potential in Dual Supplies. In single-supply applications, it can be connected to ground.", 4 S1A "Source Terminal 1A. Can be an input or an output.", 5 S2A "Source Terminal 2A. Can be an input or an output.", 6 S3A "Source Terminal 3A. Can be an input or an output.", 7 S4A "Source Terminal 4A. Can be an input or an output.", 8 DA "Drain Terminal A. Can be an input or an output.", 9 DB "Drain Terminal B. Can be an input or an output.", 10 S4B "Source Terminal 4B. Can be an input or an output.", 11 S3B "Source Terminal 3B. Can be an input or an output.", 12 S2B "Source Terminal 2B. Can be an input or an output.", 13 S1B "Source Terminal 1B. Can be an input or an output.", 14 VDD (power) "Most Positive Power Supply Potential.", 15 GND (power) "Ground (0 V) Reference.", 16 A1 (in) "Logic Control Input."

## ADG509AKRZ-REEL
designator U?
CMOS 4-Channel Analog Multiplexer, -40 to 85 degC, 16-pin SOIC (R-16), Tube; Manufacturer: Analog Devices; PartNumber: ADG509AKRZ-REEL; Max Analog Signal Range: Vss to Vdd; Packing: Reel; Ron (ohms): 280; Supply V Guar Performance: Dual_(+/-12V), Dual_(+/-15V), Single_(+12V), Single_(+15V); t transition (s): 200n; DatasheetVersion: Rev. D; PackageVersion: 060606-A, 06/2006; PackageReference: R-16; PackageDescription: 16-Pin Standard Small Outline Package, Body 9.9 x 3.9 mm, Pitch 1.27 mm; Supplier 1: Digi-Key; Supplier Part Number 1: ADG509AKRZ-REELTR-ND; Supplier 2: Digi-Key; Supplier Part Number 2: ADG509AKRZ-REELCT-ND; Supplier 3: Digi-Key; Supplier Part Number 3: ADG509AKRZ-REELDKR-ND; Supplier 4: Newark; Supplier Part Number 4: 59K1370; Supplier 5: Mouser; Supplier Part Number 5: 584-ADG509AKRZ-R; Mounting Technology: Surface Mount; Code_JEDEC: MS-012-AC; ComponentLink1Description: Manufacturer URL; ComponentLink1URL: http://www.analog.com/en/index.html; ComponentLink2Description: Datasheet; ComponentLink2URL: http://www.analog.com/static/imported-files/data_sheets/ADG508A_509A.pdf; ComponentLink3Description: Package Specification; ComponentLink3URL: http://www.analog.com/static/imported-files/packages/PKG_PDF/SOIC_Narrow%20(R)/R_16.pdf
footprint ADI-R-16_N (SOIC, 16-Leads, Body 9.9x3.9mm, Pitch 1.27mm, IPC Medium Density)
footprint ADI-R-16_L (SOIC, 16-Leads, Body 9.9x3.9mm, Pitch 1.27mm, IPC High Density)
footprint ADI-R-16_M (SOIC, 16-Leads, Body 9.9x3.9mm, Pitch 1.27mm, IPC Low Density)
pins: 1 A0 (in) "Logic Control Input.", 2 EN (in) "Active High Digital Input. When low, the device is disabled and all switches are off. When high, Ax logic inputs determine on switches.", 3 VSS (power) "Most Negative Power Supply Potential in Dual Supplies. In single-supply applications, it can be connected to ground.", 4 S1A "Source Terminal 1A. Can be an input or an output.", 5 S2A "Source Terminal 2A. Can be an input or an output.", 6 S3A "Source Terminal 3A. Can be an input or an output.", 7 S4A "Source Terminal 4A. Can be an input or an output.", 8 DA "Drain Terminal A. Can be an input or an output.", 9 DB "Drain Terminal B. Can be an input or an output.", 10 S4B "Source Terminal 4B. Can be an input or an output.", 11 S3B "Source Terminal 3B. Can be an input or an output.", 12 S2B "Source Terminal 2B. Can be an input or an output.", 13 S1B "Source Terminal 1B. Can be an input or an output.", 14 VDD (power) "Most Positive Power Supply Potential.", 15 GND (power) "Ground (0 V) Reference.", 16 A1 (in) "Logic Control Input."

## ADG509AKRZ-REEL7
designator U?
CMOS 4-Channel Analog Multiplexer, -40 to 85 degC, 16-pin SOIC (R-16), Tube; Manufacturer: Analog Devices; PartNumber: ADG509AKRZ-REEL7; Max Analog Signal Range: Vss to Vdd; Packing: Reel; Ron (ohms): 280; Supply V Guar Performance: Dual_(+/-12V), Dual_(+/-15V), Single_(+12V), Single_(+15V); t transition (s): 200n; DatasheetVersion: Rev. D; PackageVersion: 060606-A, 06/2006; PackageReference: R-16; PackageDescription: 16-Pin Standard Small Outline Package, Body 9.9 x 3.9 mm, Pitch 1.27 mm; Supplier 1: Digi-Key; Supplier Part Number 1: ADG509AKRZ-REEL7TR-ND; Supplier 2: Digi-Key; Supplier Part Number 2: ADG509AKRZ-REEL7CT-ND; Supplier 3: Digi-Key; Supplier Part Number 3: ADG509AKRZ-REEL7DKR-ND; Supplier 4: Newark; Supplier Part Number 4: 67W2637; Supplier 5: Newark; Supplier Part Number 5: 59K1371; Supplier 6: Mouser; Supplier Part Number 6: 584-ADG509AKRZ-R7; Mounting Technology: Surface Mount; Code_JEDEC: MS-012-AC; ComponentLink1Description: Manufacturer URL; ComponentLink1URL: http://www.analog.com/en/index.html; ComponentLink2Description: Datasheet; ComponentLink2URL: http://www.analog.com/static/imported-files/data_sheets/ADG508A_509A.pdf; ComponentLink3Description: Package Specification; ComponentLink3URL: http://www.analog.com/static/imported-files/packages/PKG_PDF/SOIC_Narrow%20(R)/R_16.pdf
footprint ADI-R-16_N (SOIC, 16-Leads, Body 9.9x3.9mm, Pitch 1.27mm, IPC Medium Density)
footprint ADI-R-16_L (SOIC, 16-Leads, Body 9.9x3.9mm, Pitch 1.27mm, IPC High Density)
footprint ADI-R-16_M (SOIC, 16-Leads, Body 9.9x3.9mm, Pitch 1.27mm, IPC Low Density)
pins: 1 A0 (in) "Logic Control Input.", 2 EN (in) "Active High Digital Input. When low, the device is disabled and all switches are off. When high, Ax logic inputs determine on switches.", 3 VSS (power) "Most Negative Power Supply Potential in Dual Supplies. In single-supply applications, it can be connected to ground.", 4 S1A "Source Terminal 1A. Can be an input or an output.", 5 S2A "Source Terminal 2A. Can be an input or an output.", 6 S3A "Source Terminal 3A. Can be an input or an output.", 7 S4A "Source Terminal 4A. Can be an input or an output.", 8 DA "Drain Terminal A. Can be an input or an output.", 9 DB "Drain Terminal B. Can be an input or an output.", 10 S4B "Source Terminal 4B. Can be an input or an output.", 11 S3B "Source Terminal 3B. Can be an input or an output.", 12 S2B "Source Terminal 2B. Can be an input or an output.", 13 S1B "Source Terminal 1B. Can be an input or an output.", 14 VDD (power) "Most Positive Power Supply Potential.", 15 GND (power) "Ground (0 V) Reference.", 16 A1 (in) "Logic Control Input."

## ADG509ATQ
designator U?
CMOS 4-Channel Analog Multiplexer, -55 to 125 degC, 16-pin DIP (Q-16), Tube; Manufacturer: Analog Devices; PartNumber: ADG509ATQ; Max Analog Signal Range: Vss to Vdd; Ron (ohms): 280; Supply V Guar Performance: Dual_(+/-12V), Dual_(+/-15V), Single_(+12V), Single_(+15V); t transition (s): 200n; DatasheetVersion: Rev. D; PackageVersion: Aug-05; PackageReference: Q-16; PackageDescription: 16-Pin Ceramic Dual In-Line Package, Row spacing 7.62 mm, Pitch 2.54 mm; Supplier 1: Digi-Key; Supplier Part Number 1: ADG509ATQ-ND; Supplier 2: Newark; Supplier Part Number 2: 05F6227; Supplier 3: Mouser; Supplier Part Number 3: 584-ADG509ATQ; Packing: Tube; Mounting Technology: Through Hole; ComponentLink1Description: Manufacturer URL; ComponentLink1URL: http://www.analog.com/en/index.html; ComponentLink2Description: Datasheet; ComponentLink2URL: http://www.analog.com/static/imported-files/data_sheets/ADG508A_509A.pdf; ComponentLink3Description: Package Specification; ComponentLink3URL: http://www.analog.com/static/imported-files/packages/54083157002221Q_16.pdf
footprint ADI-Q-16 (DIP, 16-Leads, Body 21.34x6.73mm, Pitch 2.54mm)
pins: 1 A0 (in) "Logic Control Input.", 2 EN (in) "Active High Digital Input. When low, the device is disabled and all switches are off. When high, Ax logic inputs determine on switches.", 3 VSS (power) "Most Negative Power Supply Potential in Dual Supplies. In single-supply applications, it can be connected to ground.", 4 S1A "Source Terminal 1A. Can be an input or an output.", 5 S2A "Source Terminal 2A. Can be an input or an output.", 6 S3A "Source Terminal 3A. Can be an input or an output.", 7 S4A "Source Terminal 4A. Can be an input or an output.", 8 DA "Drain Terminal A. Can be an input or an output.", 9 DB "Drain Terminal B. Can be an input or an output.", 10 S4B "Source Terminal 4B. Can be an input or an output.", 11 S3B "Source Terminal 3B. Can be an input or an output.", 12 S2B "Source Terminal 2B. Can be an input or an output.", 13 S1B "Source Terminal 1B. Can be an input or an output.", 14 VDD (power) "Most Positive Power Supply Potential.", 15 GND (power) "Ground (0 V) Reference.", 16 A1 (in) "Logic Control Input."

## ADG509ATQ/883B
designator U?
CMOS 4-Channel Analog Multiplexer, -55 to 125 degC, 16-pin DIP (Q-16), Tube; Manufacturer: Analog Devices; PartNumber: ADG509ATQ/883B; Max Analog Signal Range: Vss to Vdd; Ron (ohms): 280; Supply V Guar Performance: Dual_(+/-12V), Dual_(+/-15V), Single_(+12V), Single_(+15V); t transition (s): 200n; DatasheetVersion: Rev. D; PackageVersion: Aug-05; PackageReference: Q-16; PackageDescription: 16-Pin Ceramic Dual In-Line Package, Row spacing 7.62 mm, Pitch 2.54 mm; Supplier 1: Mouser; Supplier Part Number 1: 584-ADG509ATQ883B; Packing: Tube; Mounting Technology: Through Hole; ComponentLink1Description: Manufacturer URL; ComponentLink1URL: http://www.analog.com/en/index.html; ComponentLink2Description: Datasheet; ComponentLink2URL: http://www.analog.com/static/imported-files/data_sheets/ADG508A_509A.pdf; ComponentLink3Description: Package Specification; ComponentLink3URL: http://www.analog.com/static/imported-files/packages/54083157002221Q_16.pdf
footprint ADI-Q-16 (DIP, 16-Leads, Body 21.34x6.73mm, Pitch 2.54mm)
pins: 1 A0 (in) "Logic Control Input.", 2 EN (in) "Active High Digital Input. When low, the device is disabled and all switches are off. When high, Ax logic inputs determine on switches.", 3 VSS (power) "Most Negative Power Supply Potential in Dual Supplies. In single-supply applications, it can be connected to ground.", 4 S1A "Source Terminal 1A. Can be an input or an output.", 5 S2A "Source Terminal 2A. Can be an input or an output.", 6 S3A "Source Terminal 3A. Can be an input or an output.", 7 S4A "Source Terminal 4A. Can be an input or an output.", 8 DA "Drain Terminal A. Can be an input or an output.", 9 DB "Drain Terminal B. Can be an input or an output.", 10 S4B "Source Terminal 4B. Can be an input or an output.", 11 S3B "Source Terminal 3B. Can be an input or an output.", 12 S2B "Source Terminal 2B. Can be an input or an output.", 13 S1B "Source Terminal 1B. Can be an input or an output.", 14 VDD (power) "Most Positive Power Supply Potential.", 15 GND (power) "Ground (0 V) Reference.", 16 A1 (in) "Logic Control Input."

## ADG526ABQ
designator U?
CMOS Latched 16-Channel Analog Multiplexer, -40 to 85 degC, 28-pin DIP (Q-28-2); Manufacturer: Analog Devices; PartNumber: ADG526ABQ; Max Analog Signal Range: Vss to Vdd; Ron (ohms): 280; Supply V Guar Performance: Dual_(+/-12V), Dual_(+/-15V), Single_(+12V), Single_(+15V); t transition (s): 200n; DatasheetVersion: Rev. C; PackageVersion: 030106-A, 03/2006; PackageReference: Q-28-2; PackageDescription: 28-Pin Ceramic Dual In-Line Package, Row spacing 15.24 mm, Pitch 2.54 mm; Supplier 1: Digi-Key; Supplier Part Number 1: ADG526ABQ-ND; Supplier 2: Newark; Supplier Part Number 2: 05F6232; Mounting Technology: Through Hole; ComponentLink1Description: Manufacturer URL; ComponentLink1URL: http://www.analog.com/en/index.html; ComponentLink2Description: Datasheet; ComponentLink2URL: http://www.analog.com/static/imported-files/data_sheets/ADG526A_527A.pdf; ComponentLink3Description: Package Specification; ComponentLink3URL: http://www.analog.com/static/imported-files/packages/4045339666127361303Q_28_2.pdf
footprint ADI-Q-28-2 (DIP, 28-Leads, Body 37.85x14.1mm, Pitch 2.54mm)
pins: 1 VDD (power) "Most Positive Power Supply Potential.", 2 NC "No Connect.", 3 ~{RS} (in) "Reset. The R\S\ signal clears both the address and enable data in the latches resulting in no output (all switches off).", 4 S16 "Source Terminal. This pin can be an input or output.", 5 S15 "Source Terminal. This pin can be an input or output.", 6 S14 "Source Terminal. This pin can be an input or output.", 7 S13 "Source Terminal. This pin can be an input or output.", 8 S12 "Source Terminal. This pin can be an input or output.", 9 S11 "Source Terminal. This pin can be an input or output.", 10 S10 "Source Terminal. This pin can be an input or output.", 11 S9 "Source Terminal. This pin can be an input or output.", 12 GND (power) "Ground (0 V) Reference.", 13 ~{WR} (in) "Write. The W\R\ signal latches the state of the address control lines and the enable line.", 14 A3 (in) "Logic Control Inputs. Selects which source terminal is connected to the drain (D).", 15 A2 (in) "Logic Control Inputs. Selects which source terminal is connected to the drain (D).", 16 A1 (in) "Logic Control Inputs. Selects which source terminal is connected to the drain (D).", 17 A0 (in) "Logic Control Inputs. Selects which source terminal is connected to the drain (D).", 18 EN (in) "Enable. Active high logic control input.", 19 S1 "Source Terminal. This pin can be an input or output.", 20 S2 "Source Terminal. This pin can be an input or output.", 21 S3 "Source Terminal. This pin can be an input or output.", 22 S4 "Source Terminal. This pin can be an input or output.", 23 S5 "Source Terminal. This pin can be an input or output.", 24 S6 "Source Terminal. This pin can be an input or output.", 25 S7 "Source Terminal. This pin can be an input or output.", 26 S8 "Source Terminal. This pin can be an input or output.", 27 VSS (power) "Most Negative Power Supply Potential", 28 D "Drain Terminal. Can be an input or an output."

## ADG526AKN
designator U?
CMOS Latched 16-Channel Analog Multiplexer, -40 to 85 degC, 28-pin DIP (N-28-2), Tube; Manufacturer: Analog Devices; PartNumber: ADG526AKN; Max Analog Signal Range: Vss to Vdd; Ron (ohms): 280; Supply V Guar Performance: Dual_(+/-12V), Dual_(+/-15V), Single_(+12V), Single_(+15V); t transition (s): 200n; DatasheetVersion: Rev. C; PackageVersion: 071006-A, 07/2006; PackageReference: N-28-2; PackageDescription: 28-Pin Plastic Dual In-Line Package, Row spacing 15.24 mm, Pitch 2.54 mm; Supplier 1: Digi-Key; Supplier Part Number 1: ADG526AKN-ND; Supplier 2: Mouser; Supplier Part Number 2: 584-ADG526AKN; Packing: Tube; Mounting Technology: Through Hole; Code_JEDEC: MS-011; ComponentLink1Description: Manufacturer URL; ComponentLink1URL: http://www.analog.com/en/index.html; ComponentLink2Description: Datasheet; ComponentLink2URL: http://www.analog.com/static/imported-files/data_sheets/ADG526A_527A.pdf; ComponentLink3Description: Package Specification; ComponentLink3URL: http://www.analog.com/static/imported-files/packages/50849324123784N_28_2.pdf
footprint ADI-N-28-2 (DIP, 28-Leads, Body 37.4x13.52mm, Pitch 2.54mm)
pins: 1 VDD (power) "Most Positive Power Supply Potential.", 2 NC "No Connect.", 3 ~{RS} (in) "Reset. The R\S\ signal clears both the address and enable data in the latches resulting in no output (all switches off).", 4 S16 "Source Terminal. This pin can be an input or output.", 5 S15 "Source Terminal. This pin can be an input or output.", 6 S14 "Source Terminal. This pin can be an input or output.", 7 S13 "Source Terminal. This pin can be an input or output.", 8 S12 "Source Terminal. This pin can be an input or output.", 9 S11 "Source Terminal. This pin can be an input or output.", 10 S10 "Source Terminal. This pin can be an input or output.", 11 S9 "Source Terminal. This pin can be an input or output.", 12 GND (power) "Ground (0 V) Reference.", 13 ~{WR} (in) "Write. The W\R\ signal latches the state of the address control lines and the enable line.", 14 A3 (in) "Logic Control Inputs. Selects which source terminal is connected to the drain (D).", 15 A2 (in) "Logic Control Inputs. Selects which source terminal is connected to the drain (D).", 16 A1 (in) "Logic Control Inputs. Selects which source terminal is connected to the drain (D).", 17 A0 (in) "Logic control inputs. Selects which source terminal is connected to the drain (D).", 18 EN (in) "Enable. Active high logic control input.", 19 S1 "Source Terminal. This pin can be an input or output.", 20 S2 "Source Terminal. This pin can be an input or output.", 21 S3 "Source Terminal. This pin can be an input or output.", 22 S4 "Source Terminal. This pin can be an input or output.", 23 S5 "Source Terminal. This pin can be an input or output.", 24 S6 "Source Terminal. This pin can be an input or output.", 25 S7 "Source Terminal. This pin can be an input or output.", 26 S8 "Source Terminal. This pin can be an input or output.", 27 VSS (power) "Most Negative Power Supply Potential.", 28 D "Drain Terminal. This pin can be an input or output."